# EAGLE library part ILD6150 (library ILD6150)
ILD6150 LED Driver IC for High Power LEDs, 60V/1.5A High Efficiency Step-Down LED Driver IC SOIC127P600X170-9N-V2
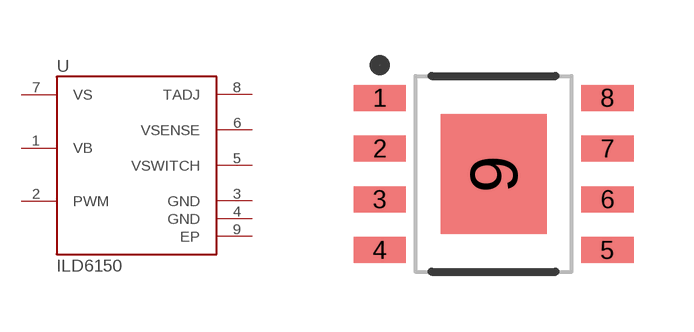
[diagram p0: symbol with the pads of SOIC127P600X170-9N-V2; footprint SOIC127P600X170-9N-V2]

Designator prefix U

## ILD6150  [SOIC127P600X170-9N-V2]
1  VB  in
2  PWM  in
3  GND  pwr
4  GND  pwr
5  VSWITCH  out
6  VSENSE  in
7  VS  pwr
8  TADJ  out
9  EP  pwr

## Footprint SOIC127P600X170-9N-V2 (pad centres in mm)
Original name SOIC127P600X170-9N-V2 Max Component Height - 1.7mm
smd 1.31 x 0.65: 1 -2.845,1.905; 2 -2.845,0.635; 3 -2.845,-0.635; 4 -2.845,-1.905; 5 2.845,-1.905; 6 2.845,-0.635; 7 2.845,0.635; 8 2.845,1.905
smd 2.65 x 3: 9 0,0